# EAGLE library part AS-ITM-00335 (library tinycircuits)
8 Position FFC, FPC Connector Contacts Top 1.00mm SMT Right Angle
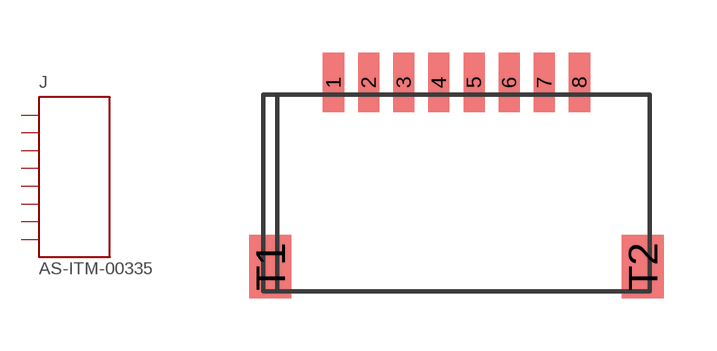
[diagram p131: symbol with the pads of 84981-8; footprint 84981-8]

Designator prefix J

## AS-ITM-00335 (PARTNO: AS-ITM-00335; VALUE: 84981-8)  [84981-8]
1  P$1
2  P$2
3  P$3
4  P$4
5  P$5
6  P$6
7  P$7
8  P$8

## Footprint 84981-8 (pad centres in mm)
smd 0.6 x 1.7: 1 -3.5,3.15; 2 -2.5,3.15; 3 -1.5,3.15; 4 -0.5,3.15; 5 0.5,3.15; 6 1.5,3.15; 7 2.5,3.15; 8 3.5,3.15
smd 1.2 x 1.8: T1 -5.3,-2.1; T2 5.3,-2.1